# Altium footprint library Knopka.PcbLib: 58 footprints (part 1 of 4)
Each footprint in its own frame and in the unit in brackets; x right, y up, seen from the top. Pads: shape width x height; smd on the part's side, far side on the other; paste and mask are expansions set on the pad; w line width, h text height; cw(c..) or ccw(c..) is an arc to the next point about the centre after c.
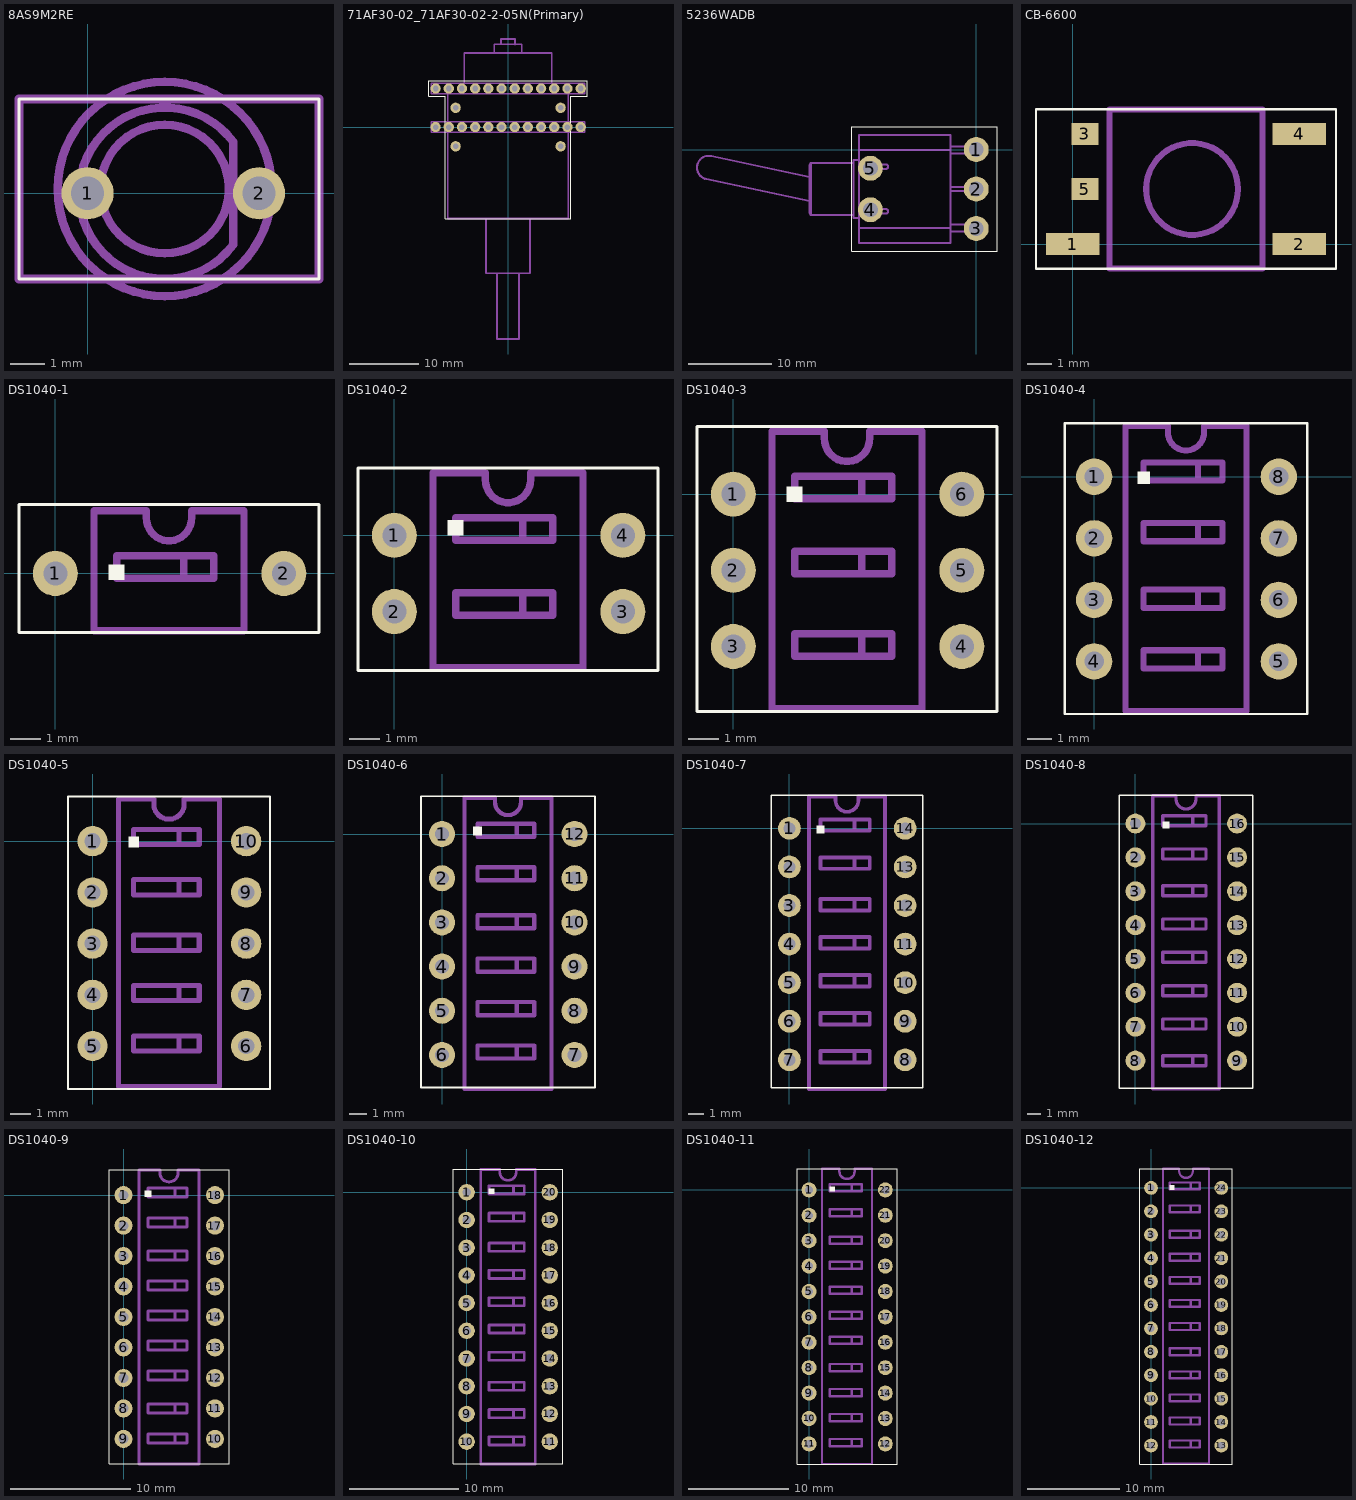
[diagram p0: the footprints below, top view; thin cyan lines are the x and y axes]

## 8AS9M2RE [mil]
pads (2):
  round 60 hole 38: 1(0,0) 2(196.85,0)
Top Overlay:
  lines w3.94: -78.74,-98.43 265.75,-98.43 265.75,108.27 -78.74,108.27 -78.74,-98.43
Mechanical 1:
  lines w9.84: 167.29,-59.1 cw(c88.58,0) 167.29,59.1 ; 167.32,-59.06 167.32,59.06 ; -78.74,-98.43 265.75,-98.43 265.75,108.27 -78.74,108.27 -78.74,-98.43 ; 88.58,-118.11 ccw(c88.58,4.92) 88.58,127.95 ccw(c88.58,4.92) 88.58,-118.11 ; 88.58,-68.9 ccw(c88.58,4.92) 88.58,78.74 ccw(c88.58,4.92) 88.58,-68.9

## 71AF30-02_71AF30-02-2-05N(Primary) [mm]
pads (28):
  round 1.5 hole 0.8: 1/1(10.52,0) 1/2(8.61,0) 1/3(6.7,0) 1/4(4.79,0) 1/5(2.88,0) 1/6(0.97,0) 1/7(-0.94,0) 1/8(-2.85,0) 1/9(-4.76,0) 1/10(-6.67,0) 1/11(-8.58,0) 1/12(-10.49,0) 1/C1(7.62,-2.79) 1/C2(-7.59,-2.79) 2/1(10.52,5.58) 2/2(8.61,5.58) 2/3(6.7,5.58) 2/4(4.79,5.58) 2/5(2.88,5.58) 2/6(0.97,5.58) 2/7(-0.94,5.58) 2/8(-2.85,5.58) 2/9(-4.76,5.58) 2/10(-6.67,5.58) 2/11(-8.58,5.58) 2/12(-10.49,5.58) 2/C3(7.62,2.79) 2/C4(-7.59,2.79)
Top Overlay:
  lines w0.1: -11.49,4.45 -11.49,6.71 11.49,6.71 11.49,4.45 9.1,4.45 9.1,-13.25 -9.1,-13.25 -9.1,4.45 -11.49,4.45
Mechanical 1:
  lines w0.254: -8.725,-0.75 -8.725,-13.25 8.725,-13.25 8.725,-0.75 ; -8.725,0.75 -8.725,4.83 ; -6.35,6.33 -6.35,10.71 6.35,10.71 6.35,6.33 ; -3.175,-13.25 -3.175,-21.17 3.175,-21.17 3.175,-13.25 ; -2,10.71 -2,11.98 2,11.98 2,10.71 ; -1.59,-21.17 -1.59,-30.7 1.59,-30.7 1.59,-21.17 ; -1,11.98 -1,12.75 1,12.75 1,11.96 ; 8.725,0.75 8.725,4.83 ; -11.115,-0.75 11.115,-0.75 11.115,0.75 -11.115,0.75 -11.115,-0.75 ; -11.115,4.83 11.115,4.83 11.115,6.33 -11.115,6.33 -11.115,4.83

## 5236WADB [mm]
pads (5):
  round 3 hole 1.8: 1(0,0) 2(0,-4.75) 3(0,-9.5) 4(-12.75,-7.25) 5(-12.75,-2.25)
Top Overlay:
  lines w0.1: -15,-12.25 2.5,-12.25 2.5,2.75 -15,2.75 -15,-12.25
Mechanical 1:
  lines w0.25: -20.101,-6.25 -20.101,-4.75 ; -20.101,-6.206 -32.504,-3.569 cw(c-32.208,-2.177) -31.912,-0.784 -20.101,-3.295 ; -20.101,-3.25 -20.101,-4.75 ; -14.787,-7.9 -19.894,-7.9 ; -14.787,-1.6 -19.894,-1.6 ; -14.101,-9.45 -3.101,-9.45 ; -14.101,-8.234 -14.787,-8.234 -14.787,-4.75 -14.787,-1.266 -14.101,-1.266 ; -14.101,-0.05 -3.101,-0.05 ; -3.101,-9.85 -0.001,-9.85 ; -3.101,-9.05 -0.001,-9.05 ; -3.101,-5 -0.001,-5 ; -3.101,-4.5 -0.001,-4.5 ; -3.101,-0.45 -0.001,-0.45 ; -3.101,0.35 -0.001,0.35 ; 0,-9.85 0,-9.05 ; 0,-5 0,-4.5 ; 0,-0.45 0,0.35 ; -20.101,-4.75 -20.101,-7.604 -19.894,-7.9 ; -20.101,-4.75 -20.101,-1.896 -19.894,-1.6 ; -19.894,-7.9 -19.894,-4.75 -19.894,-1.6 ; -14.101,-11.25 -3.101,-11.25 -3.101,1.75 -14.101,1.75 -14.101,-11.25 ; -13.211,-7.702 -10.864,-7.702 ccw(c-10.864,-7.443) -10.864,-7.184 -13.211,-7.184 -13.211,-7.702 ; -13.211,-2.316 -10.864,-2.316 ccw(c-10.864,-2.057) -10.864,-1.798 -13.211,-1.798 -13.211,-2.316

## CB-6600 [mm]
pads (5):
  rect 2.2x0.9 smd: 1(0,0) 2(9.25,0) 4(9.25,4.5)
  rect 1.1x0.9 smd: 3(0.5,4.5) 5(0.5,2.25)
Top Overlay:
  lines w0.1: -1.5,-1 10.75,-1 10.75,5.5 -0.5,5.5 -1.5,5.5 -1.5,-1
Mechanical 1:
  lines w0.25: 1.5,-1 7.75,-1 7.75,5.5 1.5,5.5 1.5,-1 ; 3,2.25 cw(c4.875,2.25) 6.75,2.25 cw(c4.875,2.25) 3,2.25

## DS1040-1 [mm]
pads (2):
  round 1.5 hole 0.8: 1(0,0) 2(7.62,0)
Top Overlay:
  region: 1.79,0.29 1.79,-0.21 2.04,-0.21 2.29,-0.21 2.29,0.29
  lines w0.1: -1.21,-1.96 8.79,-1.96 8.79,2.29 -1.21,2.29 -1.21,-1.96
Mechanical 1:
  lines w0.25: 4.29,-0.16 4.29,0.59 ; 1.29,-1.91 6.29,-1.91 6.29,2.09 4.54,2.09 4.54,1.84 cw(c3.79,1.84) 3.04,1.84 3.04,2.09 1.29,2.09 1.29,-1.91 ; 2.04,-0.16 5.29,-0.16 5.29,0.59 2.04,0.59 2.04,-0.16

## DS1040-2 [mm]
pads (4):
  round 1.5 hole 0.8: 1(0,0) 2(0,-2.54) 3(7.62,-2.54) 4(7.62,0)
Top Overlay:
  region: 1.79,0 2.29,0 2.29,0.5 1.79,0.5
  lines w0.1: -1.21,-4.5 8.79,-4.5 8.79,2.25 -1.21,2.25 -1.21,-4.5
Mechanical 1:
  lines w0.25: 4.29,-2.66 4.29,-1.91 ; 4.29,-0.16 4.29,0.59 ; 1.29,-4.41 6.29,-4.41 6.29,2.09 4.54,2.09 4.54,1.84 cw(c3.79,1.84) 3.04,1.84 3.04,2.09 1.29,2.09 1.29,-4.41 ; 2.04,-2.66 5.29,-2.66 5.29,-1.91 2.04,-1.91 2.04,-2.66 ; 2.04,-0.16 5.29,-0.16 5.29,0.59 2.04,0.59 2.04,-0.16

## DS1040-3 [mm]
pads (6):
  round 1.5 hole 0.8: 1(0,0) 2(0,-2.54) 3(0,-5.08) 4(7.62,-5.08) 5(7.62,-2.54) 6(7.62,0)
Top Overlay:
  region: 1.79,0.25 1.79,-0.25 2.29,-0.25 2.29,0.25
  lines w0.1: -1.21,-7.25 8.79,-7.25 8.79,2.25 -1.21,2.25 -1.21,-7.25
Mechanical 1:
  lines w0.25: 4.29,-5.41 4.29,-4.66 ; 4.29,-2.66 4.29,-1.91 ; 4.29,-0.16 4.29,0.59 ; 1.29,-7.16 6.29,-7.16 6.29,2.09 4.54,2.09 4.54,1.84 cw(c3.79,1.84) 3.04,1.84 3.04,2.09 1.29,2.09 1.29,-7.16 ; 2.04,-5.41 5.29,-5.41 5.29,-4.66 2.04,-4.66 2.04,-5.41 ; 2.04,-2.66 5.29,-2.66 5.29,-1.91 2.04,-1.91 2.04,-2.66 ; 2.04,-0.16 5.29,-0.16 5.29,0.59 2.04,0.59 2.04,-0.16

## DS1040-4 [mm]
pads (8):
  round 1.5 hole 0.8: 1(0,0) 2(0,-2.54) 3(0,-5.08) 4(0,-7.62) 5(7.62,-7.62) 6(7.62,-5.08) 7(7.62,-2.54) 8(7.62,0)
Top Overlay:
  region: 1.79,0.21 1.79,-0.29 2.29,-0.29 2.29,0.21
  lines w0.1: -1.21,-9.79 8.79,-9.79 8.79,2.21 -0.96,2.21 -1.21,2.21 -1.21,-9.79
Mechanical 1:
  lines w0.25: 4.29,-7.91 4.29,-7.16 ; 4.29,-5.41 4.29,-4.66 ; 4.29,-2.66 4.29,-1.91 ; 4.29,-0.16 4.29,0.59 ; 1.29,-9.66 6.29,-9.66 6.29,2.09 4.54,2.09 4.54,1.84 cw(c3.79,1.84) 3.04,1.84 3.04,2.09 1.29,2.09 1.29,-9.66 ; 2.04,-7.91 5.29,-7.91 5.29,-7.16 2.04,-7.16 2.04,-7.91 ; 2.04,-5.41 5.29,-5.41 5.29,-4.66 2.04,-4.66 2.04,-5.41 ; 2.04,-2.66 5.29,-2.66 5.29,-1.91 2.04,-1.91 2.04,-2.66 ; 2.04,-0.16 5.29,-0.16 5.29,0.59 2.04,0.59 2.04,-0.16

## DS1040-5 [mm]
pads (10):
  round 1.5 hole 0.8: 1(0,0) 2(0,-2.54) 3(0,-5.08) 4(0,-7.62) 5(0,-10.16) 6(7.62,-10.16) 7(7.62,-7.62) 8(7.62,-5.08) 9(7.62,-2.54) 10(7.62,0)
Top Overlay:
  region: 1.79,0.21 1.79,-0.29 2.29,-0.29 2.29,0.21
  lines w0.1: -1.21,-12.29 8.79,-12.29 8.79,2.21 -1.21,2.21 -1.21,-12.29
Mechanical 1:
  lines w0.25: 4.29,-10.41 4.29,-9.66 ; 4.29,-7.91 4.29,-7.16 ; 4.29,-5.41 4.29,-4.66 ; 4.29,-2.66 4.29,-1.91 ; 4.29,-0.16 4.29,0.59 ; 1.29,-12.16 6.29,-12.16 6.29,2.09 4.54,2.09 4.54,1.84 cw(c3.79,1.84) 3.04,1.84 3.04,2.09 1.29,2.09 1.29,-12.16 ; 2.04,-10.41 5.29,-10.41 5.29,-9.66 2.04,-9.66 2.04,-10.41 ; 2.04,-7.91 5.29,-7.91 5.29,-7.16 2.04,-7.16 2.04,-7.91 ; 2.04,-5.41 5.29,-5.41 5.29,-4.66 2.04,-4.66 2.04,-5.41 ; 2.04,-2.66 5.29,-2.66 5.29,-1.91 2.04,-1.91 2.04,-2.66 ; 2.04,-0.16 5.29,-0.16 5.29,0.59 2.04,0.59 2.04,-0.16

## DS1040-6 [mm]
pads (12):
  round 1.5 hole 0.8: 1(0,0) 2(0,-2.54) 3(0,-5.08) 4(0,-7.62) 5(0,-10.16) 6(0,-12.7) 7(7.62,-12.7) 8(7.62,-10.16) 9(7.62,-7.62) 10(7.62,-5.08) 11(7.62,-2.54) 12(7.62,0)
Top Overlay:
  region: 1.79,0.42 1.79,-0.08 2.29,-0.08 2.29,0.42
  lines w0.1: -1.21,-14.58 8.79,-14.58 8.79,2.17 -1.21,2.17 -1.21,-14.58
Mechanical 1:
  lines w0.25: 4.29,-12.91 4.29,-12.16 ; 4.29,-10.41 4.29,-9.66 ; 4.29,-7.91 4.29,-7.16 ; 4.29,-5.41 4.29,-4.66 ; 4.29,-2.66 4.29,-1.91 ; 4.29,-0.16 4.29,0.59 ; 1.29,-14.66 6.29,-14.66 6.29,2.09 4.54,2.09 4.54,1.84 cw(c3.79,1.84) 3.04,1.84 3.04,2.09 1.29,2.09 1.29,-14.66 ; 2.04,-12.91 5.29,-12.91 5.29,-12.16 2.04,-12.16 2.04,-12.91 ; 2.04,-10.41 5.29,-10.41 5.29,-9.66 2.04,-9.66 2.04,-10.41 ; 2.04,-7.91 5.29,-7.91 5.29,-7.16 2.04,-7.16 2.04,-7.91 ; 2.04,-5.41 5.29,-5.41 5.29,-4.66 2.04,-4.66 2.04,-5.41 ; 2.04,-2.66 5.29,-2.66 5.29,-1.91 2.04,-1.91 2.04,-2.66 ; 2.04,-0.16 5.29,-0.16 5.29,0.59 2.04,0.59 2.04,-0.16

## DS1040-7 [mm]
pads (14):
  round 1.5 hole 0.8: 1(0,0) 2(0,-2.54) 3(0,-5.08) 4(0,-7.62) 5(0,-10.16) 6(0,-12.7) 7(0,-15.24) 8(7.62,-15.24) 9(7.62,-12.7) 10(7.62,-10.16) 11(7.62,-7.62) 12(7.62,-5.08) 13(7.62,-2.54) 14(7.62,0)
Top Overlay:
  region: 1.79,0.17 1.79,-0.33 2.29,-0.33 2.29,0.17
  lines w0.1: -1.21,-17.08 8.79,-17.08 8.79,2.17 -1.21,2.17 -1.21,-17.08
Mechanical 1:
  lines w0.25: 4.29,-15.41 4.29,-14.66 ; 4.29,-12.91 4.29,-12.16 ; 4.29,-10.41 4.29,-9.66 ; 4.29,-7.91 4.29,-7.16 ; 4.29,-5.41 4.29,-4.66 ; 4.29,-2.66 4.29,-1.91 ; 4.29,-0.16 4.29,0.59 ; 1.29,-17.16 6.29,-17.16 6.29,2.09 4.54,2.09 4.54,1.84 cw(c3.79,1.84) 3.04,1.84 3.04,2.09 1.29,2.09 1.29,-17.16 ; 2.04,-15.41 5.29,-15.41 5.29,-14.66 2.04,-14.66 2.04,-15.41 ; 2.04,-12.91 5.29,-12.91 5.29,-12.16 2.04,-12.16 2.04,-12.91 ; 2.04,-10.41 5.29,-10.41 5.29,-9.66 2.04,-9.66 2.04,-10.41 ; 2.04,-7.91 5.29,-7.91 5.29,-7.16 2.04,-7.16 2.04,-7.91 ; 2.04,-5.41 5.29,-5.41 5.29,-4.66 2.04,-4.66 2.04,-5.41 ; 2.04,-2.66 5.29,-2.66 5.29,-1.91 2.04,-1.91 2.04,-2.66 ; 2.04,-0.16 5.29,-0.16 5.29,0.59 2.04,0.59 2.04,-0.16

## DS1040-8 [mm]
pads (16):
  round 1.5 hole 0.8: 1(0,0) 2(0,-2.54) 3(0,-5.08) 4(0,-7.62) 5(0,-10.16) 6(0,-12.7) 7(0,-15.24) 8(0,-17.78) 9(7.62,-17.78) 10(7.62,-15.24) 11(7.62,-12.7) 12(7.62,-10.16) 13(7.62,-7.62) 14(7.62,-5.08) 15(7.62,-2.54) 16(7.62,0)
Top Overlay:
  region: 2.04,0.13 2.04,-0.37 2.54,-0.37 2.54,0.13
  lines w0.1: -1.21,-19.87 8.79,-19.87 8.79,2.13 -1.21,2.13 -1.21,-19.87
Mechanical 1:
  lines w0.25: 4.29,-18.16 4.29,-17.41 ; 4.29,-15.41 4.29,-14.66 ; 4.29,-12.91 4.29,-12.16 ; 4.29,-10.41 4.29,-9.66 ; 4.29,-7.91 4.29,-7.16 ; 4.29,-5.41 4.29,-4.66 ; 4.29,-2.66 4.29,-1.91 ; 4.29,-0.16 4.29,0.59 ; 1.29,-19.91 6.29,-19.91 6.29,2.09 4.54,2.09 4.54,1.84 cw(c3.79,1.84) 3.04,1.84 3.04,2.09 1.29,2.09 1.29,-19.91 ; 2.04,-18.16 5.29,-18.16 5.29,-17.41 2.04,-17.41 2.04,-18.16 ; 2.04,-15.41 5.29,-15.41 5.29,-14.66 2.04,-14.66 2.04,-15.41 ; 2.04,-12.91 5.29,-12.91 5.29,-12.16 2.04,-12.16 2.04,-12.91 ; 2.04,-10.41 5.29,-10.41 5.29,-9.66 2.04,-9.66 2.04,-10.41 ; 2.04,-7.91 5.29,-7.91 5.29,-7.16 2.04,-7.16 2.04,-7.91 ; 2.04,-5.41 5.29,-5.41 5.29,-4.66 2.04,-4.66 2.04,-5.41 ; 2.04,-2.66 5.29,-2.66 5.29,-1.91 2.04,-1.91 2.04,-2.66 ; 2.04,-0.16 5.29,-0.16 5.29,0.59 2.04,0.59 2.04,-0.16

## DS1040-9 [mm]
pads (18):
  round 1.5 hole 0.8: 1(0,0) 2(0,-2.54) 3(0,-5.08) 4(0,-7.62) 5(0,-10.16) 6(0,-12.7) 7(0,-15.24) 8(0,-17.78) 9(0,-20.32) 10(7.62,-20.32) 11(7.62,-17.78) 12(7.62,-15.24) 13(7.62,-12.7) 14(7.62,-10.16) 15(7.62,-7.62) 16(7.62,-5.08) 17(7.62,-2.54) 18(7.62,0)
Top Overlay:
  region: 1.79,0.38 1.79,-0.12 2.29,-0.12 2.29,0.38
  lines w0.1: -1.21,-22.37 8.79,-22.37 8.79,2.13 -1.21,2.13 -1.21,-22.37
Mechanical 1:
  lines w0.25: 4.29,-20.66 4.29,-19.91 ; 4.29,-18.16 4.29,-17.41 ; 4.29,-15.41 4.29,-14.66 ; 4.29,-12.91 4.29,-12.16 ; 4.29,-10.41 4.29,-9.66 ; 4.29,-7.91 4.29,-7.16 ; 4.29,-5.41 4.29,-4.66 ; 4.29,-2.66 4.29,-1.91 ; 4.29,-0.16 4.29,0.59 ; 1.29,-22.41 6.29,-22.41 6.29,2.09 4.54,2.09 4.54,1.84 cw(c3.79,1.84) 3.04,1.84 3.04,2.09 1.29,2.09 1.29,-22.41 ; 2.04,-20.66 5.29,-20.66 5.29,-19.91 2.04,-19.91 2.04,-20.66 ; 2.04,-18.16 5.29,-18.16 5.29,-17.41 2.04,-17.41 2.04,-18.16 ; 2.04,-15.41 5.29,-15.41 5.29,-14.66 2.04,-14.66 2.04,-15.41 ; 2.04,-12.91 5.29,-12.91 5.29,-12.16 2.04,-12.16 2.04,-12.91 ; 2.04,-10.41 5.29,-10.41 5.29,-9.66 2.04,-9.66 2.04,-10.41 ; 2.04,-7.91 5.29,-7.91 5.29,-7.16 2.04,-7.16 2.04,-7.91 ; 2.04,-5.41 5.29,-5.41 5.29,-4.66 2.04,-4.66 2.04,-5.41 ; 2.04,-2.66 5.29,-2.66 5.29,-1.91 2.04,-1.91 2.04,-2.66 ; 2.04,-0.16 5.29,-0.16 5.29,0.59 2.04,0.59 2.04,-0.16

## DS1040-10 [mm]
pads (20):
  round 1.5 hole 0.8: 1(0,0) 2(0,-2.54) 3(0,-5.08) 4(0,-7.62) 5(0,-10.16) 6(0,-12.7) 7(0,-15.24) 8(0,-17.78) 9(0,-20.32) 10(0,-22.86) 11(7.62,-22.86) 12(7.62,-20.32) 13(7.62,-17.78) 14(7.62,-15.24) 15(7.62,-12.7) 16(7.62,-10.16) 17(7.62,-7.62) 18(7.62,-5.08) 19(7.62,-2.54) 20(7.62,0)
Top Overlay:
  region: 2.04,0.34 2.04,-0.16 2.54,-0.16 2.54,0.34
  lines w0.1: -1.21,-24.91 8.79,-24.91 8.79,2.09 -1.21,2.09 -1.21,-24.91
Mechanical 1:
  lines w0.25: 4.29,-23.16 4.29,-22.41 ; 4.29,-20.66 4.29,-19.91 ; 4.29,-18.16 4.29,-17.41 ; 4.29,-15.41 4.29,-14.66 ; 4.29,-12.91 4.29,-12.16 ; 4.29,-10.41 4.29,-9.66 ; 4.29,-7.91 4.29,-7.16 ; 4.29,-5.41 4.29,-4.66 ; 4.29,-2.66 4.29,-1.91 ; 4.29,-0.16 4.29,0.59 ; 1.29,-24.91 6.29,-24.91 6.29,2.09 4.54,2.09 4.54,1.84 cw(c3.79,1.84) 3.04,1.84 3.04,2.09 1.29,2.09 1.29,-24.91 ; 2.04,-23.16 5.29,-23.16 5.29,-22.41 2.04,-22.41 2.04,-23.16 ; 2.04,-20.66 5.29,-20.66 5.29,-19.91 2.04,-19.91 2.04,-20.66 ; 2.04,-18.16 5.29,-18.16 5.29,-17.41 2.04,-17.41 2.04,-18.16 ; 2.04,-15.41 5.29,-15.41 5.29,-14.66 2.04,-14.66 2.04,-15.41 ; 2.04,-12.91 5.29,-12.91 5.29,-12.16 2.04,-12.16 2.04,-12.91 ; 2.04,-10.41 5.29,-10.41 5.29,-9.66 2.04,-9.66 2.04,-10.41 ; 2.04,-7.91 5.29,-7.91 5.29,-7.16 2.04,-7.16 2.04,-7.91 ; 2.04,-5.41 5.29,-5.41 5.29,-4.66 2.04,-4.66 2.04,-5.41 ; 2.04,-2.66 5.29,-2.66 5.29,-1.91 2.04,-1.91 2.04,-2.66 ; 2.04,-0.16 5.29,-0.16 5.29,0.59 2.04,0.59 2.04,-0.16

## DS1040-11 [mm]
pads (22):
  round 1.5 hole 0.8: 1(0,0) 2(0,-2.54) 3(0,-5.08) 4(0,-7.62) 5(0,-10.16) 6(0,-12.7) 7(0,-15.24) 8(0,-17.78) 9(0,-20.32) 10(0,-22.86) 11(0,-25.4) 12(7.62,-25.4) 13(7.62,-22.86) 14(7.62,-20.32) 15(7.62,-17.78) 16(7.62,-15.24) 17(7.62,-12.7) 18(7.62,-10.16) 19(7.62,-7.62) 20(7.62,-5.08) 21(7.62,-2.54) 22(7.62,0)
Top Overlay:
  region: 2.04,0.34 2.04,-0.16 2.54,-0.16 2.54,0.34
  lines w0.1: -1.21,-27.41 8.79,-27.41 8.79,2.09 -1.21,2.09 -1.21,-27.41
Mechanical 1:
  lines w0.25: 4.29,-25.66 4.29,-24.91 ; 4.29,-23.16 4.29,-22.41 ; 4.29,-20.66 4.29,-19.91 ; 4.29,-18.16 4.29,-17.41 ; 4.29,-15.41 4.29,-14.66 ; 4.29,-12.91 4.29,-12.16 ; 4.29,-10.41 4.29,-9.66 ; 4.29,-7.91 4.29,-7.16 ; 4.29,-5.41 4.29,-4.66 ; 4.29,-2.66 4.29,-1.91 ; 4.29,-0.16 4.29,0.59 ; 1.29,-27.41 6.29,-27.41 6.29,2.09 4.54,2.09 4.54,1.84 cw(c3.79,1.84) 3.04,1.84 3.04,2.09 1.29,2.09 1.29,-27.41 ; 2.04,-25.66 5.29,-25.66 5.29,-24.91 2.04,-24.91 2.04,-25.66 ; 2.04,-23.16 5.29,-23.16 5.29,-22.41 2.04,-22.41 2.04,-23.16 ; 2.04,-20.66 5.29,-20.66 5.29,-19.91 2.04,-19.91 2.04,-20.66 ; 2.04,-18.16 5.29,-18.16 5.29,-17.41 2.04,-17.41 2.04,-18.16 ; 2.04,-15.41 5.29,-15.41 5.29,-14.66 2.04,-14.66 2.04,-15.41 ; 2.04,-12.91 5.29,-12.91 5.29,-12.16 2.04,-12.16 2.04,-12.91 ; 2.04,-10.41 5.29,-10.41 5.29,-9.66 2.04,-9.66 2.04,-10.41 ; 2.04,-7.91 5.29,-7.91 5.29,-7.16 2.04,-7.16 2.04,-7.91 ; 2.04,-5.41 5.29,-5.41 5.29,-4.66 2.04,-4.66 2.04,-5.41 ; 2.04,-2.66 5.29,-2.66 5.29,-1.91 2.04,-1.91 2.04,-2.66 ; 2.04,-0.16 5.29,-0.16 5.29,0.59 2.04,0.59 2.04,-0.16

## DS1040-12 [mm]
pads (24):
  round 1.5 hole 0.8: 1(0,0) 2(0,-2.54) 3(0,-5.08) 4(0,-7.62) 5(0,-10.16) 6(0,-12.7) 7(0,-15.24) 8(0,-17.78) 9(0,-20.32) 10(0,-22.86) 11(0,-25.4) 12(0,-27.94) 13(7.62,-27.94) 14(7.62,-25.4) 15(7.62,-22.86) 16(7.62,-20.32) 17(7.62,-17.78) 18(7.62,-15.24) 19(7.62,-12.7) 20(7.62,-10.16) 21(7.62,-7.62) 22(7.62,-5.08) 23(7.62,-2.54) 24(7.62,0)
Top Overlay:
  region: 2.04,0.3 2.04,-0.2 2.54,-0.2 2.54,0.3
  lines w0.1: -1.21,-29.95 8.79,-29.95 8.79,2.05 -1.21,2.05 -1.21,-29.95
Mechanical 1:
  lines w0.25: 4.29,-28.16 4.29,-27.41 ; 4.29,-25.66 4.29,-24.91 ; 4.29,-23.16 4.29,-22.41 ; 4.29,-20.66 4.29,-19.91 ; 4.29,-18.16 4.29,-17.41 ; 4.29,-15.41 4.29,-14.66 ; 4.29,-12.91 4.29,-12.16 ; 4.29,-10.41 4.29,-9.66 ; 4.29,-7.91 4.29,-7.16 ; 4.29,-5.41 4.29,-4.66 ; 4.29,-2.66 4.29,-1.91 ; 4.29,-0.16 4.29,0.59 ; 1.29,-29.91 6.29,-29.91 6.29,2.09 4.54,2.09 4.54,1.84 cw(c3.79,1.84) 3.04,1.84 3.04,2.09 1.29,2.09 1.29,-29.91 ; 2.04,-28.16 5.29,-28.16 5.29,-27.41 2.04,-27.41 2.04,-28.16 ; 2.04,-25.66 5.29,-25.66 5.29,-24.91 2.04,-24.91 2.04,-25.66 ; 2.04,-23.16 5.29,-23.16 5.29,-22.41 2.04,-22.41 2.04,-23.16 ; 2.04,-20.66 5.29,-20.66 5.29,-19.91 2.04,-19.91 2.04,-20.66 ; 2.04,-18.16 5.29,-18.16 5.29,-17.41 2.04,-17.41 2.04,-18.16 ; 2.04,-15.41 5.29,-15.41 5.29,-14.66 2.04,-14.66 2.04,-15.41 ; 2.04,-12.91 5.29,-12.91 5.29,-12.16 2.04,-12.16 2.04,-12.91 ; 2.04,-10.41 5.29,-10.41 5.29,-9.66 2.04,-9.66 2.04,-10.41 ; 2.04,-7.91 5.29,-7.91 5.29,-7.16 2.04,-7.16 2.04,-7.91 ; 2.04,-5.41 5.29,-5.41 5.29,-4.66 2.04,-4.66 2.04,-5.41 ; 2.04,-2.66 5.29,-2.66 5.29,-1.91 2.04,-1.91 2.04,-2.66 ; 2.04,-0.16 5.29,-0.16 5.29,0.59 2.04,0.59 2.04,-0.16